# Altium integrated library Silicon Labs Isolation and Power.IntLib: 421 symbols (part 11 of 19)
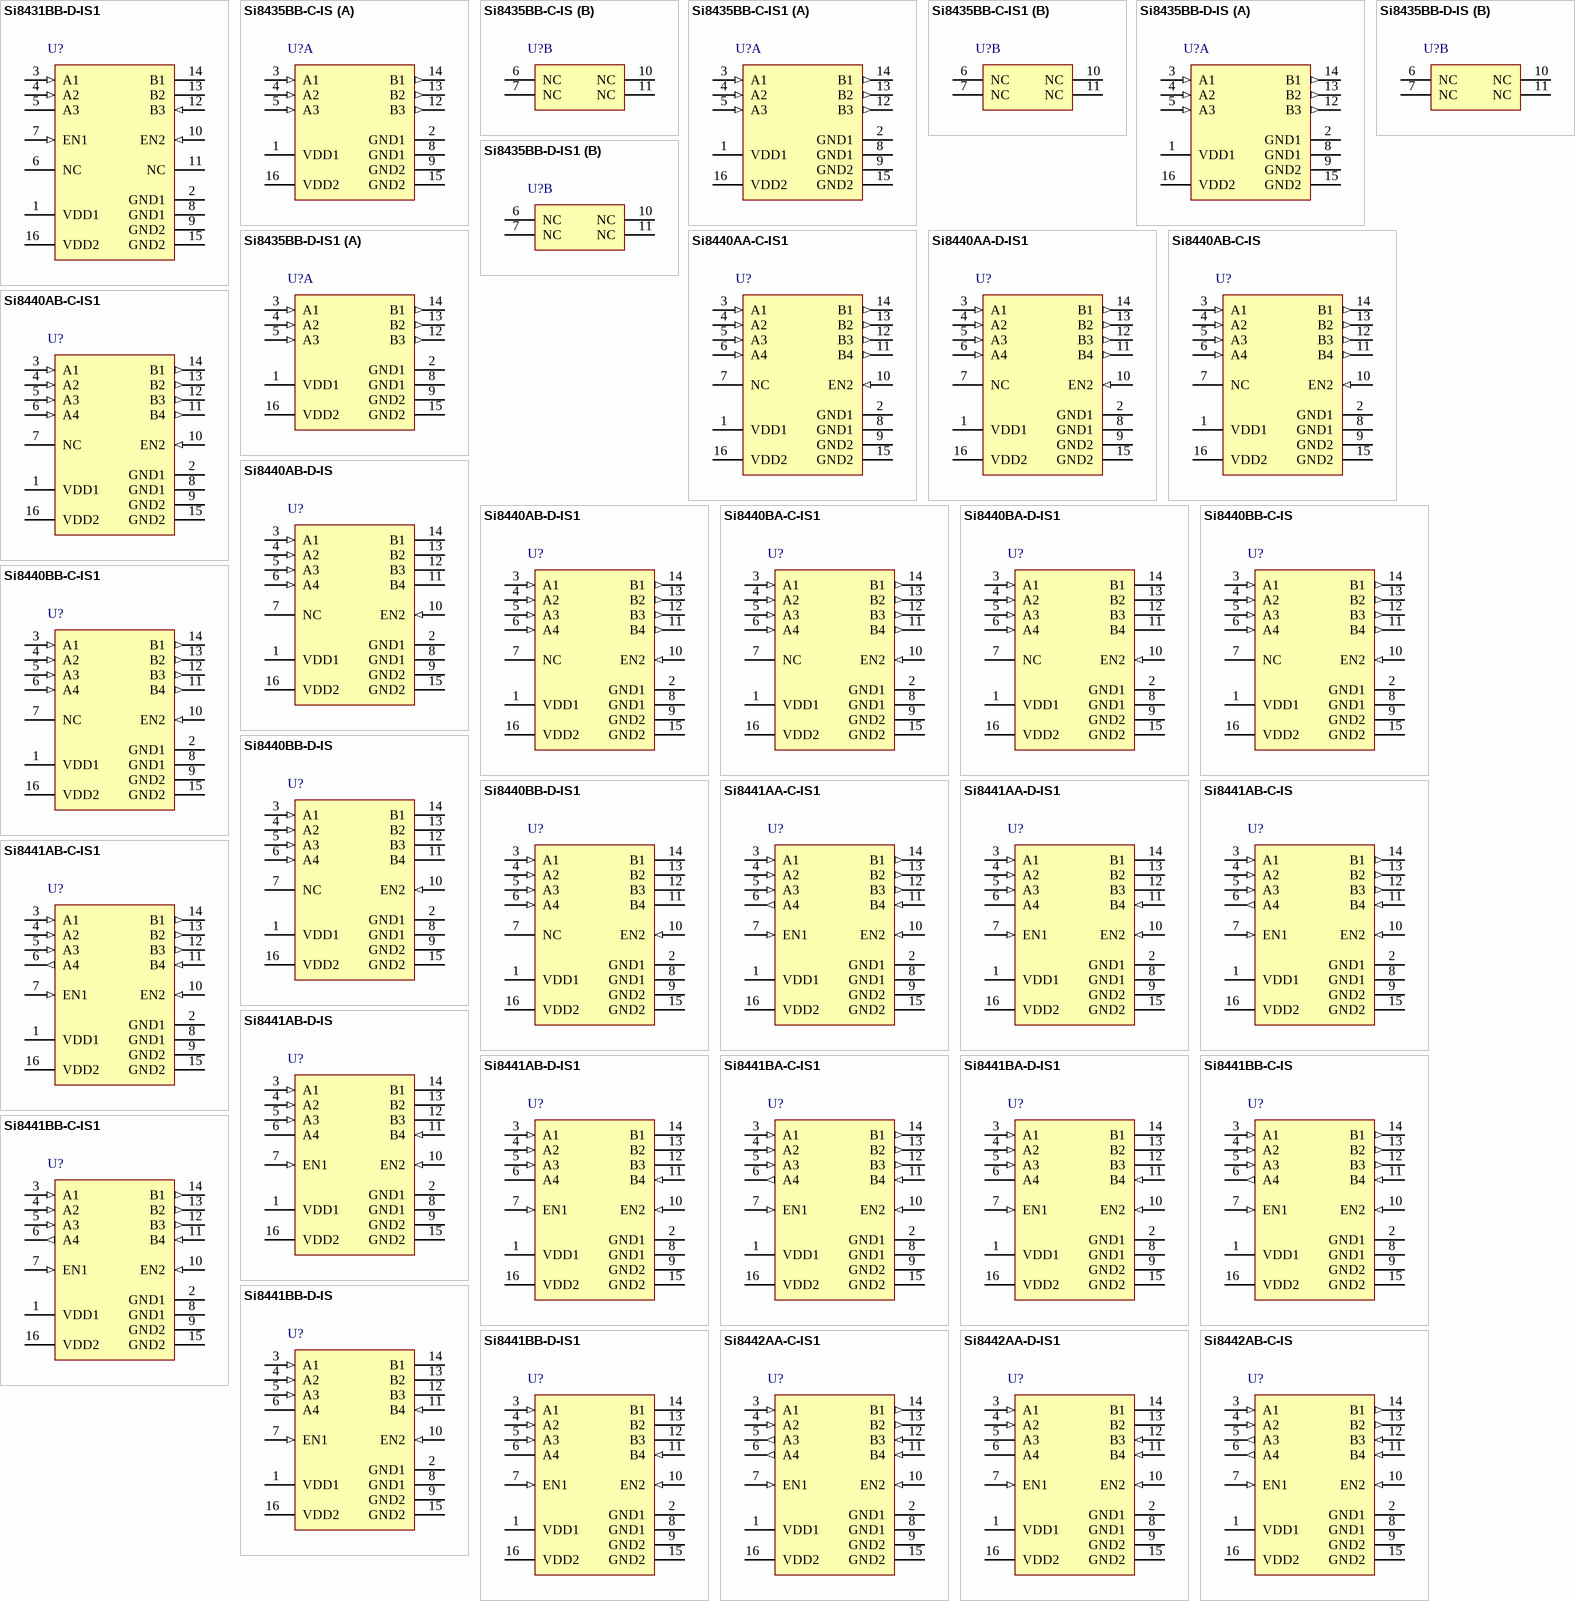
[diagram p24: symbols Si8431BB-D-IS1 to Si8442AB-C-IS]

## Si8441AB-D-IS1
designator U?
Low-Power Quad-Channel Digital Isolator, 1 Mbps, 2.5 kVRMS Isolation Rating, -40 to 125 degC, 16-pin SOIC; Manufacturer: Silicon Labs; PartNumber: Si8441AB-D-IS1; 10kV surge: FALSE; Channel Type: Unidirectional; Enable Control: TRUE; Isolation Rating (kV): 2.5; Maximum Data Rate (Mbps): 1; Maximum Propagation Delay (ns): 35; Sub-Family: Isolators; DatasheetVersion: Rev. 1.5; PackageReference: SOIC-16-NB; PackageDescription: 16-Pin Small-Outline Integrated Circuit, Body 9.9 x 3.9 mm, Pitch 1.27 mm; Supplier 1: Digi-Key; Supplier Part Number 1: SI8441AB-D-IS1-ND; Supplier 2: Mouser; Supplier Part Number 2: 634-SI8441AB-D-IS1; AEC-Q100: FALSE; Mounting Technology: Surface Mount; Code_JEDEC: MS-012; Code_IPC: J-STD-020; ComponentLink1Description: Manufacturer URL; ComponentLink1URL: http://www.silabs.com/; ComponentLink2Description: Datasheet; ComponentLink2URL: http://www.silabs.com/Support%20Documents/TechnicalDocs/Si844x.pdf; ComponentLink3Description: Package Specification; ComponentLink3URL: http://www.silabs.com/Support%20Documents/TechnicalDocs/si2401.pdf
footprint SLAB-SOIC-16-NB_N (SOIC, 16-Leads, Body 9.9x3.9mm, Pitch 1.27mm, IPC Medium Density)
footprint SLAB-SOIC-16-NB_L (SOIC, 16-Leads, Body 9.9x3.9mm, Pitch 1.27mm, IPC High Density)
footprint SLAB-SOIC-16-NB_M (SOIC, 16-Leads, Body 9.9x3.9mm, Pitch 1.27mm, IPC Low Density)
pins: 1 VDD1 (power) "Side 1 power supply.", 2 GND1 (power) "Side 1 ground.", 3 A1 (in) "Side 1 digital input.", 4 A2 (in) "Side 1 digital input.", 5 A3 (in) "Side 1 digital input.", 6 A4 (hiz) "Side 1 digital output.", 7 EN1 (in) "Side 1 active high enable.", 8 GND1 (power) "Side 1 ground.", 9 GND2 (power) "Side 2 ground.", 10 EN2 (in) "Side 2 active high enable.", 11 B4 (in) "Side 2 digital input.", 12 B3 (hiz) "Side 2 digital output.", 13 B2 (hiz) "Side 2 digital output.", 14 B1 (hiz) "Side 2 digital output.", 15 GND2 (power) "Side 2 ground.", 16 VDD2 (power) "Side 2 power supply."

## Si8441BA-C-IS1
designator U?
Low-Power Quad-Channel Digital Isolator, 150 Mbps, 1 kVRMS Isolation Rating, -40 to 125 degC, 16-pin SOIC; Manufacturer: Silicon Labs; PartNumber: Si8441BA-C-IS1; 10kV surge: FALSE; Channel Type: Unidirectional; Enable Control: TRUE; Isolation Rating (kV): 1; Maximum Data Rate (Mbps): 150; Maximum Propagation Delay (ns): 9.5; Sub-Family: Isolators; DatasheetVersion: Rev. 1.5; PackageReference: SOIC-16-NB; PackageDescription: 16-Pin Small-Outline Integrated Circuit, Body 9.9 x 3.9 mm, Pitch 1.27 mm; Supplier 1: Digi-Key; Supplier Part Number 1: SI8441BA-C-IS1-ND; AEC-Q100: FALSE; Mounting Technology: Surface Mount; Code_JEDEC: MS-012; Code_IPC: J-STD-020; ComponentLink1Description: Manufacturer URL; ComponentLink1URL: http://www.silabs.com/; ComponentLink2Description: Datasheet; ComponentLink2URL: http://www.silabs.com/Support%20Documents/TechnicalDocs/Si844x.pdf; ComponentLink3Description: Package Specification; ComponentLink3URL: http://www.silabs.com/Support%20Documents/TechnicalDocs/si2401.pdf
footprint SLAB-SOIC-16-NB_N (SOIC, 16-Leads, Body 9.9x3.9mm, Pitch 1.27mm, IPC Medium Density)
footprint SLAB-SOIC-16-NB_L (SOIC, 16-Leads, Body 9.9x3.9mm, Pitch 1.27mm, IPC High Density)
footprint SLAB-SOIC-16-NB_M (SOIC, 16-Leads, Body 9.9x3.9mm, Pitch 1.27mm, IPC Low Density)
pins: 1 VDD1 (power) "Side 1 power supply.", 2 GND1 (power) "Side 1 ground.", 3 A1 (in) "Side 1 digital input.", 4 A2 (in) "Side 1 digital input.", 5 A3 (in) "Side 1 digital input", 6 A4 (out) "Side 1 digital output.", 7 EN1 (in) "Side 1 active high enable", 8 GND1 (power) "Side 1 ground.", 9 GND2 (power) "Side 2 ground.", 10 EN2 (in) "Side 2 active high enable.", 11 B4 (in) "Side 2 digital input.", 12 B3 (out) "Side 2 digital output.", 13 B2 (out) "Side 2 digital output.", 14 B1 (out) "Side 2 digital output.", 15 GND2 (power) "Side 2 ground.", 16 VDD2 (power) "Side 2 power supply."

## Si8441BA-D-IS1
designator U?
Low-Power Quad-Channel Digital Isolator, 150 Mbps, 1 kVRMS Isolation Rating, -40 to 125 degC, 16-pin SOIC; Manufacturer: Silicon Labs; PartNumber: Si8441BA-D-IS1; 10kV surge: FALSE; Channel Type: Unidirectional; Enable Control: TRUE; Isolation Rating (kV): 1; Maximum Data Rate (Mbps): 150; Maximum Propagation Delay (ns): 9.5; Sub-Family: Isolators; DatasheetVersion: Rev. 1.5; PackageReference: SOIC-16-NB; PackageDescription: 16-Pin Small-Outline Integrated Circuit, Body 9.9 x 3.9 mm, Pitch 1.27 mm; Supplier 1: Digi-Key; Supplier Part Number 1: SI8441BA-D-IS1-ND; Supplier 2: Mouser; Supplier Part Number 2: 634-SI8441BA-D-IS1; AEC-Q100: FALSE; Mounting Technology: Surface Mount; Code_JEDEC: MS-012; Code_IPC: J-STD-020; ComponentLink1Description: Manufacturer URL; ComponentLink1URL: http://www.silabs.com/; ComponentLink2Description: Datasheet; ComponentLink2URL: http://www.silabs.com/Support%20Documents/TechnicalDocs/Si844x.pdf; ComponentLink3Description: Package Specification; ComponentLink3URL: http://www.silabs.com/Support%20Documents/TechnicalDocs/si2401.pdf
footprint SLAB-SOIC-16-NB_N (SOIC, 16-Leads, Body 9.9x3.9mm, Pitch 1.27mm, IPC Medium Density)
footprint SLAB-SOIC-16-NB_L (SOIC, 16-Leads, Body 9.9x3.9mm, Pitch 1.27mm, IPC High Density)
footprint SLAB-SOIC-16-NB_M (SOIC, 16-Leads, Body 9.9x3.9mm, Pitch 1.27mm, IPC Low Density)
pins: 1 VDD1 (power) "Side 1 power supply.", 2 GND1 (power) "Side 1 ground.", 3 A1 (in) "Side 1 digital input.", 4 A2 (in) "Side 1 digital input.", 5 A3 (in) "Side 1 digital input.", 6 A4 (hiz) "Side 1 digital output.", 7 EN1 (in) "Side 1 active high enable.", 8 GND1 (power) "Side 1 ground.", 9 GND2 (power) "Side 2 ground.", 10 EN2 (in) "Side 2 active high enable.", 11 B4 (in) "Side 2 digital input.", 12 B3 (hiz) "Side 2 digital output.", 13 B2 (hiz) "Side 2 digital output.", 14 B1 (hiz) "Side 2 digital output.", 15 GND2 (power) "Side 2 ground.", 16 VDD2 (power) "Side 2 power supply."

## Si8441BB-C-IS
designator U?
Low-Power Quad-Channel Digital Isolator, 150 Mbps, 2.5 kVRMS Isolation Rating, -40 to 125 degC, 16-pin SOIC; Manufacturer: Silicon Labs; PartNumber: Si8441BB-C-IS; 10kV surge: FALSE; Channel Type: Unidirectional; Enable Control: TRUE; Isolation Rating (kV): 2.5; Maximum Data Rate (Mbps): 150; Maximum Propagation Delay (ns): 9.5; Sub-Family: Isolators; DatasheetVersion: Rev. 1.5; PackageReference: SOIC-16-WB; PackageDescription: 16-Pin Wide Body Plastic Small Outline, Body 10.3 x 7.5 mm, Pitch 1.27 mm; Supplier 1: Mouser; Supplier Part Number 1: 634-SI8441BB-C-IS; AEC-Q100: FALSE; Mounting Technology: Surface Mount; Code_JEDEC: MS-013; ComponentLink1Description: Manufacturer URL; ComponentLink1URL: http://www.silabs.com/; ComponentLink2Description: Datasheet; ComponentLink2URL: http://www.silabs.com/Support%20Documents/TechnicalDocs/Si844x.pdf; ComponentLink3Description: Package Specification; ComponentLink3URL: https://www.silabs.com/Support%20Documents/TechnicalDocs/Si823x.pdf
footprint SLAB-SOIC-16-WB_N (SOIC, 16-Leads, Body 10.3x7.5mm, Pitch 1.27mm, IPC Medium Density)
footprint SLAB-SOIC-16-WB_L (SOIC, 16-Leads, Body 10.3x7.5mm, Pitch 1.27mm, IPC High Density)
footprint SLAB-SOIC-16-WB_M (SOIC, 16-Leads, Body 10.3x7.5mm, Pitch 1.27mm, IPC Low Density)
pins: 1 VDD1 (power) "Side 1 power supply.", 2 GND1 (power) "Side 1 ground.", 3 A1 (in) "Side 1 digital input.", 4 A2 (in) "Side 1 digital input.", 5 A3 (in) "Side 1 digital input", 6 A4 (out) "Side 1 digital output.", 7 EN1 (in) "Side 1 active high enable", 8 GND1 (power) "Side 1 ground.", 9 GND2 (power) "Side 2 ground.", 10 EN2 (in) "Side 2 active high enable.", 11 B4 (in) "Side 2 digital input.", 12 B3 (out) "Side 2 digital output.", 13 B2 (out) "Side 2 digital output.", 14 B1 (out) "Side 2 digital output.", 15 GND2 (power) "Side 2 ground.", 16 VDD2 (power) "Side 2 power supply."

## Si8441BB-C-IS1
designator U?
Low-Power Quad-Channel Digital Isolator, 150 Mbps, 2.5 kVRMS Isolation Rating, -40 to 125 degC, 16-pin SOIC; Manufacturer: Silicon Labs; PartNumber: Si8441BB-C-IS1; 10kV surge: FALSE; Channel Type: Unidirectional; Enable Control: TRUE; Isolation Rating (kV): 2.5; Maximum Data Rate (Mbps): 150; Maximum Propagation Delay (ns): 9.5; Sub-Family: Isolators; DatasheetVersion: Rev. 1.5; PackageReference: SOIC-16-NB; PackageDescription: 16-Pin Small-Outline Integrated Circuit, Body 9.9 x 3.9 mm, Pitch 1.27 mm; Supplier 1: Digi-Key; Supplier Part Number 1: SI8441BB-C-IS1-ND; AEC-Q100: FALSE; Mounting Technology: Surface Mount; Code_JEDEC: MS-012; Code_IPC: J-STD-020; ComponentLink1Description: Manufacturer URL; ComponentLink1URL: http://www.silabs.com/; ComponentLink2Description: Datasheet; ComponentLink2URL: http://www.silabs.com/Support%20Documents/TechnicalDocs/Si844x.pdf; ComponentLink3Description: Package Specification; ComponentLink3URL: http://www.silabs.com/Support%20Documents/TechnicalDocs/si2401.pdf
footprint SLAB-SOIC-16-NB_N (SOIC, 16-Leads, Body 9.9x3.9mm, Pitch 1.27mm, IPC Medium Density)
footprint SLAB-SOIC-16-NB_L (SOIC, 16-Leads, Body 9.9x3.9mm, Pitch 1.27mm, IPC High Density)
footprint SLAB-SOIC-16-NB_M (SOIC, 16-Leads, Body 9.9x3.9mm, Pitch 1.27mm, IPC Low Density)
pins: 1 VDD1 (power) "Side 1 power supply.", 2 GND1 (power) "Side 1 ground.", 3 A1 (in) "Side 1 digital input.", 4 A2 (in) "Side 1 digital input.", 5 A3 (in) "Side 1 digital input", 6 A4 (out) "Side 1 digital output.", 7 EN1 (in) "Side 1 active high enable", 8 GND1 (power) "Side 1 ground.", 9 GND2 (power) "Side 2 ground.", 10 EN2 (in) "Side 2 active high enable.", 11 B4 (in) "Side 2 digital input.", 12 B3 (out) "Side 2 digital output.", 13 B2 (out) "Side 2 digital output.", 14 B1 (out) "Side 2 digital output.", 15 GND2 (power) "Side 2 ground.", 16 VDD2 (power) "Side 2 power supply."

## Si8441BB-D-IS
designator U?
Low-Power Quad-Channel Digital Isolator, 150 Mbps, 2.5 kVRMS Isolation Rating, -40 to 125 degC, 16-pin SOIC; Manufacturer: Silicon Labs; PartNumber: Si8441BB-D-IS; 10kV surge: FALSE; Channel Type: Unidirectional; Enable Control: TRUE; Isolation Rating (kV): 2.5; Maximum Data Rate (Mbps): 150; Maximum Propagation Delay (ns): 9.5; Sub-Family: Isolators; DatasheetVersion: Rev. 1.5; PackageReference: SOIC-16-WB; PackageDescription: 16-Pin Wide Body Plastic Small Outline, Body 10.3 x 7.5 mm, Pitch 1.27 mm; Supplier 1: Digi-Key; Supplier Part Number 1: 336-1762-5-ND; Supplier 2: Mouser; Supplier Part Number 2: 634-SI8441BB-D-IS; AEC-Q100: FALSE; Mounting Technology: Surface Mount; Code_JEDEC: MS-013; ComponentLink1Description: Manufacturer URL; ComponentLink1URL: http://www.silabs.com/; ComponentLink2Description: Datasheet; ComponentLink2URL: http://www.silabs.com/Support%20Documents/TechnicalDocs/Si844x.pdf; ComponentLink3Description: Package Specification; ComponentLink3URL: https://www.silabs.com/Support%20Documents/TechnicalDocs/Si823x.pdf
footprint SLAB-SOIC-16-WB_N (SOIC, 16-Leads, Body 10.3x7.5mm, Pitch 1.27mm, IPC Medium Density)
footprint SLAB-SOIC-16-WB_L (SOIC, 16-Leads, Body 10.3x7.5mm, Pitch 1.27mm, IPC High Density)
footprint SLAB-SOIC-16-WB_M (SOIC, 16-Leads, Body 10.3x7.5mm, Pitch 1.27mm, IPC Low Density)
pins: 1 VDD1 (power) "Side 1 power supply.", 2 GND1 (power) "Side 1 ground.", 3 A1 (in) "Side 1 digital input.", 4 A2 (in) "Side 1 digital input.", 5 A3 (in) "Side 1 digital input.", 6 A4 (hiz) "Side 1 digital output.", 7 EN1 (in) "Side 1 active high enable.", 8 GND1 (power) "Side 1 ground.", 9 GND2 (power) "Side 2 ground.", 10 EN2 (in) "Side 2 active high enable.", 11 B4 (in) "Side 2 digital input.", 12 B3 (hiz) "Side 2 digital output.", 13 B2 (hiz) "Side 2 digital output.", 14 B1 (hiz) "Side 2 digital output.", 15 GND2 (power) "Side 2 ground.", 16 VDD2 (power) "Side 2 power supply."

## Si8441BB-D-IS1
designator U?
Low-Power Quad-Channel Digital Isolator, 150 Mbps, 2.5 kVRMS Isolation Rating, -40 to 125 degC, 16-pin SOIC; Manufacturer: Silicon Labs; PartNumber: Si8441BB-D-IS1; 10kV surge: FALSE; Channel Type: Unidirectional; Enable Control: TRUE; Isolation Rating (kV): 2.5; Maximum Data Rate (Mbps): 150; Maximum Propagation Delay (ns): 9.5; Sub-Family: Isolators; DatasheetVersion: Rev. 1.5; PackageReference: SOIC-16-NB; PackageDescription: 16-Pin Small-Outline Integrated Circuit, Body 9.9 x 3.9 mm, Pitch 1.27 mm; Supplier 1: Digi-Key; Supplier Part Number 1: SI8441BB-D-IS1-ND; Supplier 2: Mouser; Supplier Part Number 2: 634-SI8441BB-D-IS1; AEC-Q100: FALSE; Mounting Technology: Surface Mount; Code_JEDEC: MS-012; Code_IPC: J-STD-020; ComponentLink1Description: Manufacturer URL; ComponentLink1URL: http://www.silabs.com/; ComponentLink2Description: Datasheet; ComponentLink2URL: http://www.silabs.com/Support%20Documents/TechnicalDocs/Si844x.pdf; ComponentLink3Description: Package Specification; ComponentLink3URL: http://www.silabs.com/Support%20Documents/TechnicalDocs/si2401.pdf
footprint SLAB-SOIC-16-NB_N (SOIC, 16-Leads, Body 9.9x3.9mm, Pitch 1.27mm, IPC Medium Density)
footprint SLAB-SOIC-16-NB_L (SOIC, 16-Leads, Body 9.9x3.9mm, Pitch 1.27mm, IPC High Density)
footprint SLAB-SOIC-16-NB_M (SOIC, 16-Leads, Body 9.9x3.9mm, Pitch 1.27mm, IPC Low Density)
pins: 1 VDD1 (power) "Side 1 power supply.", 2 GND1 (power) "Side 1 ground.", 3 A1 (in) "Side 1 digital input.", 4 A2 (in) "Side 1 digital input.", 5 A3 (in) "Side 1 digital input.", 6 A4 (hiz) "Side 1 digital output.", 7 EN1 (in) "Side 1 active high enable.", 8 GND1 (power) "Side 1 ground.", 9 GND2 (power) "Side 2 ground.", 10 EN2 (in) "Side 2 active high enable.", 11 B4 (in) "Side 2 digital input.", 12 B3 (hiz) "Side 2 digital output.", 13 B2 (hiz) "Side 2 digital output.", 14 B1 (hiz) "Side 2 digital output.", 15 GND2 (power) "Side 2 ground.", 16 VDD2 (power) "Side 2 power supply."

## Si8442AA-C-IS1
designator U?
Low-Power Quad-Channel Digital Isolator, 1 Mbps, 1 kVRMS Isolation Rating, -40 to 125 degC, 16-pin SOIC; Manufacturer: Silicon Labs; PartNumber: Si8442AA-C-IS1; 10kV surge: FALSE; Channel Type: Unidirectional; Enable Control: TRUE; Isolation Rating (kV): 1; Maximum Propagation Delay (ns): 35; Sub-Family: Isolators; DatasheetVersion: Rev. 1.5; PackageReference: SOIC-16-NB; PackageDescription: 16-Pin Small-Outline Integrated Circuit, Body 9.9 x 3.9 mm, Pitch 1.27 mm; Supplier 1: Digi-Key; Supplier Part Number 1: SI8442AA-C-IS1-ND; AEC-Q100: FALSE; Maximum Data Rate (Mbps): 1; Mounting Technology: Surface Mount; Code_JEDEC: MS-012; Code_IPC: J-STD-020; ComponentLink1Description: Manufacturer URL; ComponentLink1URL: http://www.silabs.com/; ComponentLink2Description: Datasheet; ComponentLink2URL: http://www.silabs.com/Support%20Documents/TechnicalDocs/Si844x.pdf; ComponentLink3Description: Package Specification; ComponentLink3URL: http://www.silabs.com/Support%20Documents/TechnicalDocs/si2401.pdf
footprint SLAB-SOIC-16-NB_N (SOIC, 16-Leads, Body 9.9x3.9mm, Pitch 1.27mm, IPC Medium Density)
footprint SLAB-SOIC-16-NB_L (SOIC, 16-Leads, Body 9.9x3.9mm, Pitch 1.27mm, IPC High Density)
footprint SLAB-SOIC-16-NB_M (SOIC, 16-Leads, Body 9.9x3.9mm, Pitch 1.27mm, IPC Low Density)
pins: 1 VDD1 (power) "Side 1 power supply.", 2 GND1 (power) "Side 1 ground.", 3 A1 (in) "Side 1 digital input.", 4 A2 (in) "Side 1 digital input.", 5 A3 (out) "Side 1 digital output.", 6 A4 (out) "Side 1 digital output.", 7 EN1 (in) "Side 1 active high enable", 8 GND1 (power) "Side 1 ground.", 9 GND2 (power) "Side 2 ground.", 10 EN2 (in) "Side 2 active high enable.", 11 B4 (in) "Side 2 digital input", 12 B3 (in) "Side 2 digital input", 13 B2 (out) "Side 2 digital output.", 14 B1 (out) "Side 2 digital output.", 15 GND2 (power) "Side 2 ground.", 16 VDD2 (power) "Side 2 power supply."

## Si8442AA-D-IS1
designator U?
Low-Power Quad-Channel Digital Isolator, 1 Mbps, 1 kVRMS Isolation Rating, -40 to 125 degC, 16-pin SOIC; Manufacturer: Silicon Labs; PartNumber: Si8442AA-D-IS1; 10kV surge: FALSE; Channel Type: Unidirectional; Enable Control: TRUE; Isolation Rating (kV): 1; Maximum Propagation Delay (ns): 35; Sub-Family: Isolators; DatasheetVersion: Rev. 1.5; PackageReference: SOIC-16-NB; PackageDescription: 16-Pin Small-Outline Integrated Circuit, Body 9.9 x 3.9 mm, Pitch 1.27 mm; Supplier 1: Digi-Key; Supplier Part Number 1: SI8442AA-D-IS1-ND; Supplier 2: Mouser; Supplier Part Number 2: 634-SI8442AA-D-IS1; AEC-Q100: FALSE; Maximum Data Rate (Mbps): 1; Mounting Technology: Surface Mount; Code_JEDEC: MS-012; Code_IPC: J-STD-020; ComponentLink1Description: Manufacturer URL; ComponentLink1URL: http://www.silabs.com/; ComponentLink2Description: Datasheet; ComponentLink2URL: http://www.silabs.com/Support%20Documents/TechnicalDocs/Si844x.pdf; ComponentLink3Description: Package Specification; ComponentLink3URL: http://www.silabs.com/Support%20Documents/TechnicalDocs/si2401.pdf
footprint SLAB-SOIC-16-NB_N (SOIC, 16-Leads, Body 9.9x3.9mm, Pitch 1.27mm, IPC Medium Density)
footprint SLAB-SOIC-16-NB_L (SOIC, 16-Leads, Body 9.9x3.9mm, Pitch 1.27mm, IPC High Density)
footprint SLAB-SOIC-16-NB_M (SOIC, 16-Leads, Body 9.9x3.9mm, Pitch 1.27mm, IPC Low Density)
pins: 1 VDD1 (power) "Side 1 power supply.", 2 GND1 (power) "Side 1 ground.", 3 A1 (in) "Side 1 digital input.", 4 A2 (in) "Side 1 digital input.", 5 A3 (hiz) "Side 1 digital output.", 6 A4 (hiz) "Side 1 digital output.", 7 EN1 (in) "Side 1 active high enable.", 8 GND1 (power) "Side 1 ground.", 9 GND2 (power) "Side 2 ground.", 10 EN2 (in) "Side 2 active high enable.", 11 B4 (in) "Side 2 digital input.", 12 B3 (in) "Side 2 digital input.", 13 B2 (hiz) "Side 2 digital output.", 14 B1 (hiz) "Side 2 digital output.", 15 GND2 (power) "Side 2 ground.", 16 VDD2 (power) "Side 2 power supply."

## Si8442AB-C-IS
designator U?
Low-Power Quad-Channel Digital Isolator, 1 Mbps, 2.5 kVRMS Isolation Rating, -40 to 125 degC, 16-pin SOIC; Manufacturer: Silicon Labs; PartNumber: Si8442AB-C-IS; Note: 0; 10kV surge: FALSE; Channel Type: Unidirectional; Enable Control: TRUE; Isolation Rating (kV): 2.5; Maximum Data Rate (Mbps): 1; Maximum Propagation Delay (ns): 35; Sub-Family: Isolators; DatasheetVersion: Rev. 1.5; PackageReference: SOIC-16-WB; PackageDescription: 16-Pin Wide Body Plastic Small Outline, Body 10.3 x 7.5 mm, Pitch 1.27 mm; AEC-Q100: FALSE; Mounting Technology: Surface Mount; Code_JEDEC: MS-013; ComponentLink1Description: Manufacturer URL; ComponentLink1URL: http://www.silabs.com/; ComponentLink2Description: Datasheet; ComponentLink2URL: http://www.silabs.com/Support%20Documents/TechnicalDocs/Si844x.pdf; ComponentLink3Description: Package Specification; ComponentLink3URL: https://www.silabs.com/Support%20Documents/TechnicalDocs/Si823x.pdf
footprint SLAB-SOIC-16-WB_N (SOIC, 16-Leads, Body 10.3x7.5mm, Pitch 1.27mm, IPC Medium Density)
footprint SLAB-SOIC-16-WB_L (SOIC, 16-Leads, Body 10.3x7.5mm, Pitch 1.27mm, IPC High Density)
footprint SLAB-SOIC-16-WB_M (SOIC, 16-Leads, Body 10.3x7.5mm, Pitch 1.27mm, IPC Low Density)
pins: 1 VDD1 (power) "Side 1 power supply.", 2 GND1 (power) "Side 1 ground.", 3 A1 (in) "Side 1 digital input.", 4 A2 (in) "Side 1 digital input.", 5 A3 (out) "Side 1 digital output.", 6 A4 (out) "Side 1 digital output.", 7 EN1 (in) "Side 1 active high enable", 8 GND1 (power) "Side 1 ground.", 9 GND2 (power) "Side 2 ground.", 10 EN2 (in) "Side 2 active high enable.", 11 B4 (in) "Side 2 digital input", 12 B3 (in) "Side 2 digital input", 13 B2 (out) "Side 2 digital output.", 14 B1 (out) "Side 2 digital output.", 15 GND2 (power) "Side 2 ground.", 16 VDD2 (power) "Side 2 power supply."

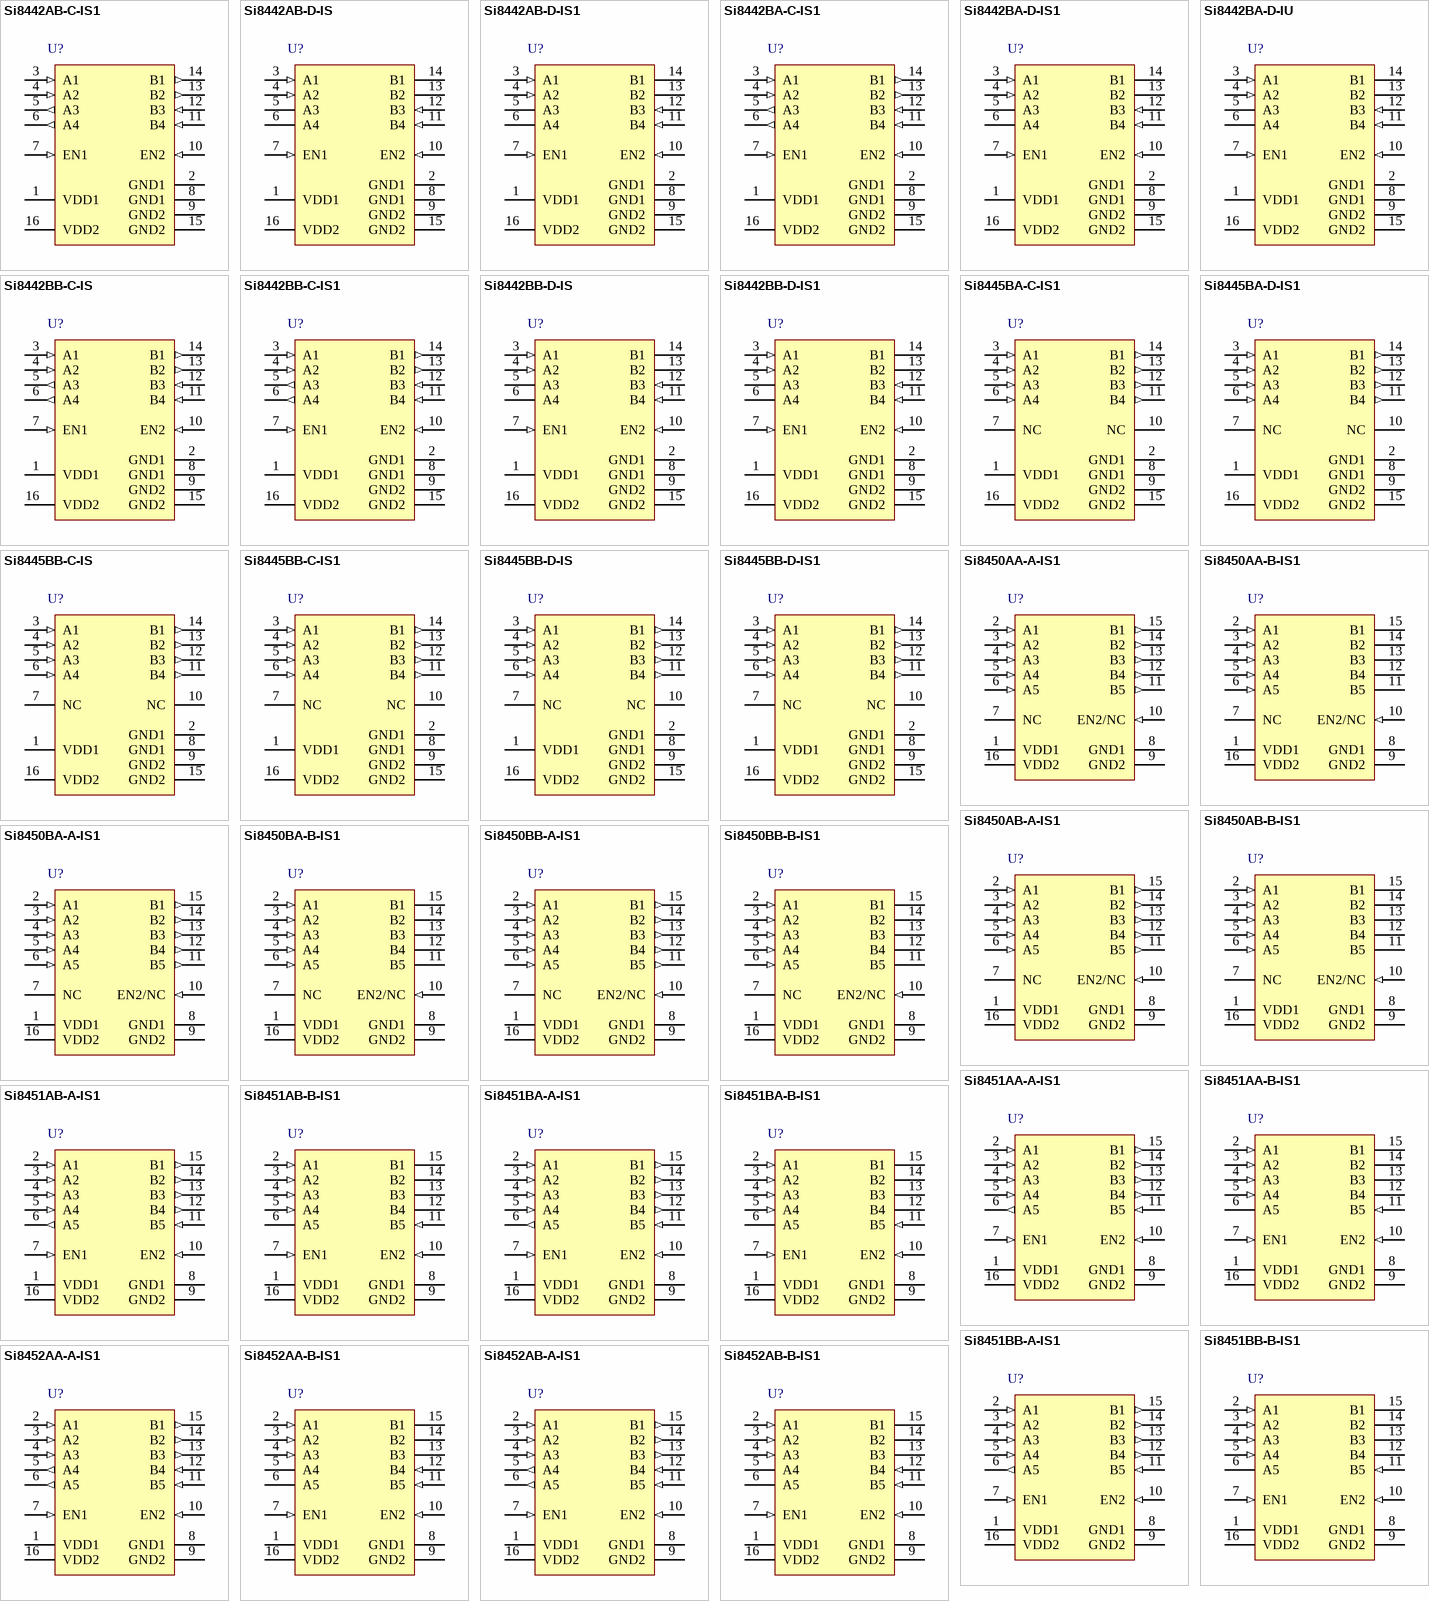
[diagram p8: symbols Si8442AB-C-IS1 to Si8452AB-B-IS1]

## Si8442AB-C-IS1
designator U?
Low-Power Quad-Channel Digital Isolator, 1 Mbps, 2.5 kVRMS Isolation Rating, -40 to 125 degC, 16-pin SOIC; Manufacturer: Silicon Labs; PartNumber: Si8442AB-C-IS1; 10kV surge: FALSE; Channel Type: Unidirectional; Enable Control: TRUE; Isolation Rating (kV): 2.5; Maximum Data Rate (Mbps): 1; Maximum Propagation Delay (ns): 35; Sub-Family: Isolators; DatasheetVersion: Rev. 1.5; PackageReference: SOIC-16-NB; PackageDescription: 16-Pin Small-Outline Integrated Circuit, Body 9.9 x 3.9 mm, Pitch 1.27 mm; Supplier 1: Digi-Key; Supplier Part Number 1: SI8442AB-C-IS1-ND; AEC-Q100: FALSE; Mounting Technology: Surface Mount; Code_JEDEC: MS-012; Code_IPC: J-STD-020; ComponentLink1Description: Manufacturer URL; ComponentLink1URL: http://www.silabs.com/; ComponentLink2Description: Datasheet; ComponentLink2URL: http://www.silabs.com/Support%20Documents/TechnicalDocs/Si844x.pdf; ComponentLink3Description: Package Specification; ComponentLink3URL: http://www.silabs.com/Support%20Documents/TechnicalDocs/si2401.pdf
footprint SLAB-SOIC-16-NB_N (SOIC, 16-Leads, Body 9.9x3.9mm, Pitch 1.27mm, IPC Medium Density)
footprint SLAB-SOIC-16-NB_L (SOIC, 16-Leads, Body 9.9x3.9mm, Pitch 1.27mm, IPC High Density)
footprint SLAB-SOIC-16-NB_M (SOIC, 16-Leads, Body 9.9x3.9mm, Pitch 1.27mm, IPC Low Density)
pins: 1 VDD1 (power) "Side 1 power supply.", 2 GND1 (power) "Side 1 ground.", 3 A1 (in) "Side 1 digital input.", 4 A2 (in) "Side 1 digital input.", 5 A3 (out) "Side 1 digital output.", 6 A4 (out) "Side 1 digital output.", 7 EN1 (in) "Side 1 active high enable", 8 GND1 (power) "Side 1 ground.", 9 GND2 (power) "Side 2 ground.", 10 EN2 (in) "Side 2 active high enable.", 11 B4 (in) "Side 2 digital input", 12 B3 (in) "Side 2 digital input", 13 B2 (out) "Side 2 digital output.", 14 B1 (out) "Side 2 digital output.", 15 GND2 (power) "Side 2 ground.", 16 VDD2 (power) "Side 2 power supply."

## Si8442AB-D-IS
designator U?
Low-Power Quad-Channel Digital Isolator, 1 Mbps, 2.5 kVRMS Isolation Rating, -40 to 125 degC, 16-pin SOIC; Manufacturer: Silicon Labs; PartNumber: Si8442AB-D-IS; 10kV surge: FALSE; Channel Type: Unidirectional; Enable Control: TRUE; Isolation Rating (kV): 2.5; Maximum Data Rate (Mbps): 1; Maximum Propagation Delay (ns): 35; Sub-Family: Isolators; DatasheetVersion: Rev. 1.5; PackageReference: SOIC-16-WB; PackageDescription: 16-Pin Wide Body Plastic Small Outline, Body 10.3 x 7.5 mm, Pitch 1.27 mm; Supplier 1: Digi-Key; Supplier Part Number 1: 336-1763-5-ND; Supplier 2: Mouser; Supplier Part Number 2: 634-SI8442AB-D-IS; AEC-Q100: FALSE; Mounting Technology: Surface Mount; Code_JEDEC: MS-013; ComponentLink1Description: Manufacturer URL; ComponentLink1URL: http://www.silabs.com/; ComponentLink2Description: Datasheet; ComponentLink2URL: http://www.silabs.com/Support%20Documents/TechnicalDocs/Si844x.pdf; ComponentLink3Description: Package Specification; ComponentLink3URL: https://www.silabs.com/Support%20Documents/TechnicalDocs/Si823x.pdf
footprint SLAB-SOIC-16-WB_N (SOIC, 16-Leads, Body 10.3x7.5mm, Pitch 1.27mm, IPC Medium Density)
footprint SLAB-SOIC-16-WB_L (SOIC, 16-Leads, Body 10.3x7.5mm, Pitch 1.27mm, IPC High Density)
footprint SLAB-SOIC-16-WB_M (SOIC, 16-Leads, Body 10.3x7.5mm, Pitch 1.27mm, IPC Low Density)
pins: 1 VDD1 (power) "Side 1 power supply.", 2 GND1 (power) "Side 1 ground.", 3 A1 (in) "Side 1 digital input.", 4 A2 (in) "Side 1 digital input.", 5 A3 (hiz) "Side 1 digital output.", 6 A4 (hiz) "Side 1 digital output.", 7 EN1 (in) "Side 1 active high enable.", 8 GND1 (power) "Side 1 ground.", 9 GND2 (power) "Side 2 ground.", 10 EN2 (in) "Side 2 active high enable.", 11 B4 (in) "Side 2 digital input.", 12 B3 (in) "Side 2 digital input.", 13 B2 (hiz) "Side 2 digital output.", 14 B1 (hiz) "Side 2 digital output.", 15 GND2 (power) "Side 2 ground.", 16 VDD2 (power) "Side 2 power supply."

## Si8442AB-D-IS1
designator U?
Low-Power Quad-Channel Digital Isolator, 1 Mbps, 2.5 kVRMS Isolation Rating, -40 to 125 degC, 16-pin SOIC; Manufacturer: Silicon Labs; PartNumber: Si8442AB-D-IS1; 10kV surge: FALSE; Channel Type: Unidirectional; Enable Control: TRUE; Isolation Rating (kV): 2.5; Maximum Data Rate (Mbps): 1; Maximum Propagation Delay (ns): 35; Sub-Family: Isolators; DatasheetVersion: Rev. 1.5; PackageReference: SOIC-16-NB; PackageDescription: 16-Pin Small-Outline Integrated Circuit, Body 9.9 x 3.9 mm, Pitch 1.27 mm; Supplier 1: Digi-Key; Supplier Part Number 1: SI8442AB-D-IS1-ND; Supplier 2: Mouser; Supplier Part Number 2: 634-SI8442AB-D-IS1; AEC-Q100: FALSE; Mounting Technology: Surface Mount; Code_JEDEC: MS-012; Code_IPC: J-STD-020; ComponentLink1Description: Manufacturer URL; ComponentLink1URL: http://www.silabs.com/; ComponentLink2Description: Datasheet; ComponentLink2URL: http://www.silabs.com/Support%20Documents/TechnicalDocs/Si844x.pdf; ComponentLink3Description: Package Specification; ComponentLink3URL: http://www.silabs.com/Support%20Documents/TechnicalDocs/si2401.pdf
footprint SLAB-SOIC-16-NB_N (SOIC, 16-Leads, Body 9.9x3.9mm, Pitch 1.27mm, IPC Medium Density)
footprint SLAB-SOIC-16-NB_L (SOIC, 16-Leads, Body 9.9x3.9mm, Pitch 1.27mm, IPC High Density)
footprint SLAB-SOIC-16-NB_M (SOIC, 16-Leads, Body 9.9x3.9mm, Pitch 1.27mm, IPC Low Density)
pins: 1 VDD1 (power) "Side 1 power supply.", 2 GND1 (power) "Side 1 ground.", 3 A1 (in) "Side 1 digital input.", 4 A2 (in) "Side 1 digital input.", 5 A3 (hiz) "Side 1 digital output.", 6 A4 (hiz) "Side 1 digital output.", 7 EN1 (in) "Side 1 active high enable.", 8 GND1 (power) "Side 1 ground.", 9 GND2 (power) "Side 2 ground.", 10 EN2 (in) "Side 2 active high enable.", 11 B4 (in) "Side 2 digital input.", 12 B3 (in) "Side 2 digital input.", 13 B2 (hiz) "Side 2 digital output.", 14 B1 (hiz) "Side 2 digital output.", 15 GND2 (power) "Side 2 ground.", 16 VDD2 (power) "Side 2 power supply."

## Si8442BA-C-IS1
designator U?
Low-Power Quad-Channel Digital Isolator, 150 Mbps, 1 kVRMS Isolation Rating, -40 to 125 degC, 16-pin SOIC; Manufacturer: Silicon Labs; PartNumber: Si8442BA-C-IS1; 10kV surge: FALSE; Channel Type: Unidirectional; Enable Control: TRUE; Isolation Rating (kV): 1; Maximum Data Rate (Mbps): 150; Maximum Propagation Delay (ns): 9.5; Sub-Family: Isolators; DatasheetVersion: Rev. 1.5; PackageReference: SOIC-16-NB; PackageDescription: 16-Pin Small-Outline Integrated Circuit, Body 9.9 x 3.9 mm, Pitch 1.27 mm; Supplier 1: Digi-Key; Supplier Part Number 1: SI8442BA-C-IS1-ND; Supplier 2: Mouser; Supplier Part Number 2: 634-SI8442BA-C-IS1; AEC-Q100: FALSE; Mounting Technology: Surface Mount; Code_JEDEC: MS-012; Code_IPC: J-STD-020; ComponentLink1Description: Manufacturer URL; ComponentLink1URL: http://www.silabs.com/; ComponentLink2Description: Datasheet; ComponentLink2URL: http://www.silabs.com/Support%20Documents/TechnicalDocs/Si844x.pdf; ComponentLink3Description: Package Specification; ComponentLink3URL: http://www.silabs.com/Support%20Documents/TechnicalDocs/si2401.pdf
footprint SLAB-SOIC-16-NB_N (SOIC, 16-Leads, Body 9.9x3.9mm, Pitch 1.27mm, IPC Medium Density)
footprint SLAB-SOIC-16-NB_L (SOIC, 16-Leads, Body 9.9x3.9mm, Pitch 1.27mm, IPC High Density)
footprint SLAB-SOIC-16-NB_M (SOIC, 16-Leads, Body 9.9x3.9mm, Pitch 1.27mm, IPC Low Density)
pins: 1 VDD1 (power) "Side 1 power supply.", 2 GND1 (power) "Side 1 ground.", 3 A1 (in) "Side 1 digital input.", 4 A2 (in) "Side 1 digital input.", 5 A3 (out) "Side 1 digital output.", 6 A4 (out) "Side 1 digital output.", 7 EN1 (in) "Side 1 active high enable", 8 GND1 (power) "Side 1 ground.", 9 GND2 (power) "Side 2 ground.", 10 EN2 (in) "Side 2 active high enable.", 11 B4 (in) "Side 2 digital input", 12 B3 (in) "Side 2 digital input", 13 B2 (out) "Side 2 digital output.", 14 B1 (out) "Side 2 digital output.", 15 GND2 (power) "Side 2 ground.", 16 VDD2 (power) "Side 2 power supply."

## Si8442BA-D-IS1
designator U?
Low-Power Quad-Channel Digital Isolator, 150 Mbps, 1 kVRMS Isolation Rating, -40 to 125 degC, 16-pin SOIC; Manufacturer: Silicon Labs; PartNumber: Si8442BA-D-IS1; 10kV surge: FALSE; Channel Type: Unidirectional; Enable Control: TRUE; Isolation Rating (kV): 1; Maximum Data Rate (Mbps): 150; Maximum Propagation Delay (ns): 9.5; Sub-Family: Isolators; DatasheetVersion: Rev. 1.5; PackageReference: SOIC-16-NB; PackageDescription: 16-Pin Small-Outline Integrated Circuit, Body 9.9 x 3.9 mm, Pitch 1.27 mm; Supplier 1: Digi-Key; Supplier Part Number 1: SI8442BA-D-IS1-ND; Supplier 2: Mouser; Supplier Part Number 2: 634-SI8442BA-D-IS1; AEC-Q100: FALSE; Mounting Technology: Surface Mount; Code_JEDEC: MS-012; Code_IPC: J-STD-020; ComponentLink1Description: Manufacturer URL; ComponentLink1URL: http://www.silabs.com/; ComponentLink2Description: Datasheet; ComponentLink2URL: http://www.silabs.com/Support%20Documents/TechnicalDocs/Si844x.pdf; ComponentLink3Description: Package Specification; ComponentLink3URL: http://www.silabs.com/Support%20Documents/TechnicalDocs/si2401.pdf
footprint SLAB-SOIC-16-NB_N (SOIC, 16-Leads, Body 9.9x3.9mm, Pitch 1.27mm, IPC Medium Density)
footprint SLAB-SOIC-16-NB_L (SOIC, 16-Leads, Body 9.9x3.9mm, Pitch 1.27mm, IPC High Density)
footprint SLAB-SOIC-16-NB_M (SOIC, 16-Leads, Body 9.9x3.9mm, Pitch 1.27mm, IPC Low Density)
pins: 1 VDD1 (power) "Side 1 power supply.", 2 GND1 (power) "Side 1 ground.", 3 A1 (in) "Side 1 digital input.", 4 A2 (in) "Side 1 digital input.", 5 A3 (hiz) "Side 1 digital output.", 6 A4 (hiz) "Side 1 digital output.", 7 EN1 (in) "Side 1 active high enable.", 8 GND1 (power) "Side 1 ground.", 9 GND2 (power) "Side 2 ground.", 10 EN2 (in) "Side 2 active high enable.", 11 B4 (in) "Side 2 digital input.", 12 B3 (in) "Side 2 digital input.", 13 B2 (hiz) "Side 2 digital output.", 14 B1 (hiz) "Side 2 digital output.", 15 GND2 (power) "Side 2 ground.", 16 VDD2 (power) "Side 2 power supply."

## Si8442BA-D-IU
designator U?
Four and Five-Channel Digital Isolator, 150 Mbps, 1 kVRMS Isolation Rating, -40 to 125 degC, 16-pin SOP; Manufacturer: Silicon Labs; PartNumber: Si8442BA-D-IU; 10kV surge: FALSE; Channel Type: Unidirectional; Enable Control: TRUE; Isolation Rating (kV): 1; Maximum Data Rate (Mbps): 150; Maximum Propagation Delay (ns): 9.5; Sub-Family: Isolators; DatasheetVersion: Rev. 1.1; PackageReference: QSOP-16; PackageDescription: 16-Pin Quarter-Size Small Outline Package, Body 4.89 x 3.9 mm, Pitch 0.635 mm; Supplier 1: Digi-Key; Supplier Part Number 1: SI8442BA-D-IU-ND; Supplier 2: Mouser; Supplier Part Number 2: 634-SI8442BA-D-IU; AEC-Q100: FALSE; Mounting Technology: Surface Mount; Code_JEDEC: MO-137; Code_IPC: J-STD-020D; ComponentLink1Description: Manufacturer URL; ComponentLink1URL: http://www.silabs.com/; ComponentLink2Description: Datasheet; ComponentLink2URL: http://www.silabs.com/Support%20Documents/TechnicalDocs/Si84x-5x-QSOP.pdf; ComponentLink3Description: Package Specification; ComponentLink3URL: http://www.silabs.com/Support%20Documents/TechnicalDocs/Si864x.pdf
footprint SLAB-QSOP-16_N (SOP, 16-Leads, Body 4.9x3.9mm, Pitch 0.635mm, IPC Medium Density)
footprint SLAB-QSOP-16_L (SOP, 16-Leads, Body 4.9x3.9mm, Pitch 0.635mm, IPC High Density)
footprint SLAB-QSOP-16_M (SOP, 16-Leads, Body 4.9x3.9mm, Pitch 0.635mm, IPC Low Density)
pins: 1 VDD1 (power) "Side 1 power supply.", 2 GND1 (power) "Side 1 ground.", 3 A1 (in) "Side 1 digital input.", 4 A2 (in) "Side 1 digital input.", 5 A3 (hiz) "Side 1 digital output.", 6 A4 (hiz) "Side 1 digital output.", 7 EN1 (in) "Side 1 active high enable.", 8 GND1 (power) "Side 1 ground.", 9 GND2 (power) "Side 2 ground.", 10 EN2 (in) "Side 2 active high enable.", 11 B4 (in) "Side 2 digital input.", 12 B3 (in) "Side 2 digital input.", 13 B2 (hiz) "Side 2 digital output.", 14 B1 (hiz) "Side 2 digital output.", 15 GND2 (power) "Side 2 ground.", 16 VDD2 (power) "Side 2 power supply."

## Si8442BB-C-IS
designator U?
Low-Power Quad-Channel Digital Isolator, 150 Mbps, 2.5 kVRMS Isolation Rating, -40 to 125 degC, 16-pin SOIC; Manufacturer: Silicon Labs; PartNumber: Si8442BB-C-IS; 10kV surge: FALSE; Channel Type: Unidirectional; Enable Control: TRUE; Isolation Rating (kV): 2.5; Maximum Data Rate (Mbps): 150; Maximum Propagation Delay (ns): 9.5; Sub-Family: Isolators; DatasheetVersion: Rev. 1.5; PackageReference: SOIC-16-WB; PackageDescription: 16-Pin Wide Body Plastic Small Outline, Body 10.3 x 7.5 mm, Pitch 1.27 mm; Supplier 1: Mouser; Supplier Part Number 1: 634-SI8442BB-C-IS; AEC-Q100: FALSE; Mounting Technology: Surface Mount; Code_JEDEC: MS-013; ComponentLink1Description: Manufacturer URL; ComponentLink1URL: http://www.silabs.com/; ComponentLink2Description: Datasheet; ComponentLink2URL: http://www.silabs.com/Support%20Documents/TechnicalDocs/Si844x.pdf; ComponentLink3Description: Package Specification; ComponentLink3URL: https://www.silabs.com/Support%20Documents/TechnicalDocs/Si823x.pdf
footprint SLAB-SOIC-16-WB_N (SOIC, 16-Leads, Body 10.3x7.5mm, Pitch 1.27mm, IPC Medium Density)
footprint SLAB-SOIC-16-WB_L (SOIC, 16-Leads, Body 10.3x7.5mm, Pitch 1.27mm, IPC High Density)
footprint SLAB-SOIC-16-WB_M (SOIC, 16-Leads, Body 10.3x7.5mm, Pitch 1.27mm, IPC Low Density)
pins: 1 VDD1 (power) "Side 1 power supply.", 2 GND1 (power) "Side 1 ground.", 3 A1 (in) "Side 1 digital input.", 4 A2 (in) "Side 1 digital input.", 5 A3 (out) "Side 1 digital output.", 6 A4 (out) "Side 1 digital output.", 7 EN1 (in) "Side 1 active high enable", 8 GND1 (power) "Side 1 ground.", 9 GND2 (power) "Side 2 ground.", 10 EN2 (in) "Side 2 active high enable.", 11 B4 (in) "Side 2 digital input", 12 B3 (in) "Side 2 digital input", 13 B2 (out) "Side 2 digital output.", 14 B1 (out) "Side 2 digital output.", 15 GND2 (power) "Side 2 ground.", 16 VDD2 (power) "Side 2 power supply."

## Si8442BB-C-IS1
designator U?
Low-Power Quad-Channel Digital Isolator, 150 Mbps, 2.5 kVRMS Isolation Rating, -40 to 125 degC, 16-pin SOIC; Manufacturer: Silicon Labs; PartNumber: Si8442BB-C-IS1; 10kV surge: FALSE; Channel Type: Unidirectional; Enable Control: TRUE; Isolation Rating (kV): 2.5; Maximum Data Rate (Mbps): 150; Maximum Propagation Delay (ns): 9.5; Sub-Family: Isolators; DatasheetVersion: Rev. 1.5; PackageReference: SOIC-16-NB; PackageDescription: 16-Pin Small-Outline Integrated Circuit, Body 9.9 x 3.9 mm, Pitch 1.27 mm; Supplier 1: Digi-Key; Supplier Part Number 1: SI8442BB-C-IS1-ND; AEC-Q100: FALSE; Mounting Technology: Surface Mount; Code_JEDEC: MS-012; Code_IPC: J-STD-020; ComponentLink1Description: Manufacturer URL; ComponentLink1URL: http://www.silabs.com/; ComponentLink2Description: Datasheet; ComponentLink2URL: http://www.silabs.com/Support%20Documents/TechnicalDocs/Si844x.pdf; ComponentLink3Description: Package Specification; ComponentLink3URL: http://www.silabs.com/Support%20Documents/TechnicalDocs/si2401.pdf
footprint SLAB-SOIC-16-NB_N (SOIC, 16-Leads, Body 9.9x3.9mm, Pitch 1.27mm, IPC Medium Density)
footprint SLAB-SOIC-16-NB_L (SOIC, 16-Leads, Body 9.9x3.9mm, Pitch 1.27mm, IPC High Density)
footprint SLAB-SOIC-16-NB_M (SOIC, 16-Leads, Body 9.9x3.9mm, Pitch 1.27mm, IPC Low Density)
pins: 1 VDD1 (power) "Side 1 power supply.", 2 GND1 (power) "Side 1 ground.", 3 A1 (in) "Side 1 digital input.", 4 A2 (in) "Side 1 digital input.", 5 A3 (out) "Side 1 digital output.", 6 A4 (out) "Side 1 digital output.", 7 EN1 (in) "Side 1 active high enable", 8 GND1 (power) "Side 1 ground.", 9 GND2 (power) "Side 2 ground.", 10 EN2 (in) "Side 2 active high enable.", 11 B4 (in) "Side 2 digital input", 12 B3 (in) "Side 2 digital input", 13 B2 (out) "Side 2 digital output.", 14 B1 (out) "Side 2 digital output.", 15 GND2 (power) "Side 2 ground.", 16 VDD2 (power) "Side 2 power supply."

## Si8442BB-D-IS
designator U?
Low-Power Quad-Channel Digital Isolator, 150 Mbps, 2.5 kVRMS Isolation Rating, -40 to 125 degC, 16-pin SOIC; Manufacturer: Silicon Labs; PartNumber: Si8442BB-D-IS; 10kV surge: FALSE; Channel Type: Unidirectional; Enable Control: TRUE; Isolation Rating (kV): 2.5; Maximum Data Rate (Mbps): 150; Maximum Propagation Delay (ns): 9.5; Sub-Family: Isolators; DatasheetVersion: Rev. 1.5; PackageReference: SOIC-16-WB; PackageDescription: 16-Pin Wide Body Plastic Small Outline, Body 10.3 x 7.5 mm, Pitch 1.27 mm; Supplier 1: Digi-Key; Supplier Part Number 1: 336-1764-5-ND; Supplier 2: Mouser; Supplier Part Number 2: 634-SI8442BB-D-IS; AEC-Q100: FALSE; Mounting Technology: Surface Mount; Code_JEDEC: MS-013; ComponentLink1Description: Manufacturer URL; ComponentLink1URL: http://www.silabs.com/; ComponentLink2Description: Datasheet; ComponentLink2URL: http://www.silabs.com/Support%20Documents/TechnicalDocs/Si844x.pdf; ComponentLink3Description: Package Specification; ComponentLink3URL: https://www.silabs.com/Support%20Documents/TechnicalDocs/Si823x.pdf
footprint SLAB-SOIC-16-WB_N (SOIC, 16-Leads, Body 10.3x7.5mm, Pitch 1.27mm, IPC Medium Density)
footprint SLAB-SOIC-16-WB_L (SOIC, 16-Leads, Body 10.3x7.5mm, Pitch 1.27mm, IPC High Density)
footprint SLAB-SOIC-16-WB_M (SOIC, 16-Leads, Body 10.3x7.5mm, Pitch 1.27mm, IPC Low Density)
pins: 1 VDD1 (power) "Side 1 power supply.", 2 GND1 (power) "Side 1 ground.", 3 A1 (in) "Side 1 digital input.", 4 A2 (in) "Side 1 digital input.", 5 A3 (hiz) "Side 1 digital output.", 6 A4 (hiz) "Side 1 digital output.", 7 EN1 (in) "Side 1 active high enable.", 8 GND1 (power) "Side 1 ground.", 9 GND2 (power) "Side 2 ground.", 10 EN2 (in) "Side 2 active high enable.", 11 B4 (in) "Side 2 digital input.", 12 B3 (in) "Side 2 digital input.", 13 B2 (hiz) "Side 2 digital output.", 14 B1 (hiz) "Side 2 digital output.", 15 GND2 (power) "Side 2 ground.", 16 VDD2 (power) "Side 2 power supply."

## Si8442BB-D-IS1
designator U?
Low-Power Quad-Channel Digital Isolator, 150 Mbps, 2.5 kVRMS Isolation Rating, -40 to 125 degC, 16-pin SOIC; Manufacturer: Silicon Labs; PartNumber: Si8442BB-D-IS1; 10kV surge: FALSE; Channel Type: Unidirectional; Enable Control: TRUE; Isolation Rating (kV): 2.5; Maximum Data Rate (Mbps): 150; Maximum Propagation Delay (ns): 9.5; Sub-Family: Isolators; DatasheetVersion: Rev. 1.5; PackageReference: SOIC-16-NB; PackageDescription: 16-Pin Small-Outline Integrated Circuit, Body 9.9 x 3.9 mm, Pitch 1.27 mm; Supplier 1: Digi-Key; Supplier Part Number 1: SI8442BB-D-IS1-ND; Supplier 2: Mouser; Supplier Part Number 2: 634-SI8442BB-D-IS1; AEC-Q100: FALSE; Mounting Technology: Surface Mount; Code_JEDEC: MS-012; Code_IPC: J-STD-020; ComponentLink1Description: Manufacturer URL; ComponentLink1URL: http://www.silabs.com/; ComponentLink2Description: Datasheet; ComponentLink2URL: http://www.silabs.com/Support%20Documents/TechnicalDocs/Si844x.pdf; ComponentLink3Description: Package Specification; ComponentLink3URL: http://www.silabs.com/Support%20Documents/TechnicalDocs/si2401.pdf
footprint SLAB-SOIC-16-NB_N (SOIC, 16-Leads, Body 9.9x3.9mm, Pitch 1.27mm, IPC Medium Density)
footprint SLAB-SOIC-16-NB_L (SOIC, 16-Leads, Body 9.9x3.9mm, Pitch 1.27mm, IPC High Density)
footprint SLAB-SOIC-16-NB_M (SOIC, 16-Leads, Body 9.9x3.9mm, Pitch 1.27mm, IPC Low Density)
pins: 1 VDD1 (power) "Side 1 power supply.", 2 GND1 (power) "Side 1 ground.", 3 A1 (in) "Side 1 digital input.", 4 A2 (in) "Side 1 digital input.", 5 A3 (hiz) "Side 1 digital output.", 6 A4 (hiz) "Side 1 digital output.", 7 EN1 (in) "Side 1 active high enable.", 8 GND1 (power) "Side 1 ground.", 9 GND2 (power) "Side 2 ground.", 10 EN2 (in) "Side 2 active high enable.", 11 B4 (in) "Side 2 digital input.", 12 B3 (in) "Side 2 digital input.", 13 B2 (hiz) "Side 2 digital output.", 14 B1 (hiz) "Side 2 digital output.", 15 GND2 (power) "Side 2 ground.", 16 VDD2 (power) "Side 2 power supply."

## Si8445BA-C-IS1
designator U?
Low-Power Quad-Channel Digital Isolator, 150 Mbps, 1 kVRMS Isolation Rating, -40 to 125 degC, 16-pin SOIC; Manufacturer: Silicon Labs; PartNumber: Si8445BA-C-IS1; 10kV surge: FALSE; AEC-Q100: TRUE; Channel Type: Unidirectional; Isolation Rating (kV): 1; Maximum Data Rate (Mbps): 150; Maximum Propagation Delay (ns): 9.5; Sub-Family: Isolators; DatasheetVersion: Rev. 1.5; PackageReference: SOIC-16-NB; PackageDescription: 16-Pin Small-Outline Integrated Circuit, Body 9.9 x 3.9 mm, Pitch 1.27 mm; Supplier 1: Digi-Key; Supplier Part Number 1: SI8445BA-C-IS1-ND; Enable Control: FALSE; Mounting Technology: Surface Mount; Code_JEDEC: MS-012; Code_IPC: J-STD-020; ComponentLink1Description: Manufacturer URL; ComponentLink1URL: http://www.silabs.com/; ComponentLink2Description: Datasheet; ComponentLink2URL: http://www.silabs.com/Support%20Documents/TechnicalDocs/Si844x.pdf; ComponentLink3Description: Package Specification; ComponentLink3URL: http://www.silabs.com/Support%20Documents/TechnicalDocs/si2401.pdf
footprint SLAB-SOIC-16-NB_N (SOIC, 16-Leads, Body 9.9x3.9mm, Pitch 1.27mm, IPC Medium Density)
footprint SLAB-SOIC-16-NB_L (SOIC, 16-Leads, Body 9.9x3.9mm, Pitch 1.27mm, IPC High Density)
footprint SLAB-SOIC-16-NB_M (SOIC, 16-Leads, Body 9.9x3.9mm, Pitch 1.27mm, IPC Low Density)
pins: 1 VDD1 (power) "Side 1 power supply.", 2 GND1 (power) "Side 1 ground.", 3 A1 (in) "Side 1 digital input.", 4 A2 (in) "Side 1 digital input.", 5 A3 (in) "Side 1 digital input.", 6 A4 (in) "Side 1 digital input.", 7 NC "No Connect", 8 GND1 (power) "Side 1 ground.", 9 GND2 (power) "Side 2 ground.", 10 NC "No Connect", 11 B4 (out) "Side 2 digital output.", 12 B3 (out) "Side 2 digital output.", 13 B2 (out) "Side 2 digital output.", 14 B1 (out) "Side 2 digital output.", 15 GND2 (power) "Side 2 ground.", 16 VDD2 (power) "Side 2 power supply."

## Si8445BA-D-IS1
designator U?
Low-Power Quad-Channel Digital Isolator, 150 Mbps, 1 kVRMS Isolation Rating, -40 to 125 degC, 16-pin SOIC; Manufacturer: Silicon Labs; PartNumber: Si8445BA-D-IS1; 10kV surge: FALSE; AEC-Q100: TRUE; Channel Type: Unidirectional; Isolation Rating (kV): 1; Maximum Data Rate (Mbps): 150; Maximum Propagation Delay (ns): 9.5; Sub-Family: Isolators; DatasheetVersion: Rev. 1.5; PackageReference: SOIC-16-NB; PackageDescription: 16-Pin Small-Outline Integrated Circuit, Body 9.9 x 3.9 mm, Pitch 1.27 mm; Supplier 1: Digi-Key; Supplier Part Number 1: SI8445BA-D-IS1-ND; Supplier 2: Mouser; Supplier Part Number 2: 634-SI8445BA-D-IS1; Enable Control: FALSE; Mounting Technology: Surface Mount; Code_JEDEC: MS-012; Code_IPC: J-STD-020; ComponentLink1Description: Manufacturer URL; ComponentLink1URL: http://www.silabs.com/; ComponentLink2Description: Datasheet; ComponentLink2URL: http://www.silabs.com/Support%20Documents/TechnicalDocs/Si844x.pdf; ComponentLink3Description: Package Specification; ComponentLink3URL: http://www.silabs.com/Support%20Documents/TechnicalDocs/si2401.pdf
footprint SLAB-SOIC-16-NB_N (SOIC, 16-Leads, Body 9.9x3.9mm, Pitch 1.27mm, IPC Medium Density)
footprint SLAB-SOIC-16-NB_L (SOIC, 16-Leads, Body 9.9x3.9mm, Pitch 1.27mm, IPC High Density)
footprint SLAB-SOIC-16-NB_M (SOIC, 16-Leads, Body 9.9x3.9mm, Pitch 1.27mm, IPC Low Density)
pins: 1 VDD1 (power) "Side 1 power supply.", 2 GND1 (power) "Side 1 ground.", 3 A1 (in) "Side 1 digital input.", 4 A2 (in) "Side 1 digital input.", 5 A3 (in) "Side 1 digital input.", 6 A4 (in) "Side 1 digital input.", 7 NC "No Connect", 8 GND1 (power) "Side 1 ground.", 9 GND2 (power) "Side 2 ground.", 10 NC "No Connect", 11 B4 (out) "Side 2 digital output.", 12 B3 (out) "Side 2 digital output.", 13 B2 (out) "Side 2 digital output.", 14 B1 (out) "Side 2 digital output.", 15 GND2 (power) "Side 2 ground.", 16 VDD2 (power) "Side 2 power supply."

## Si8445BB-C-IS
designator U?
Low-Power Quad-Channel Digital Isolator, 150 Mbps, 2.5 kVRMS Isolation Rating, -40 to 125 degC, 16-pin SOIC; Manufacturer: Silicon Labs; PartNumber: Si8445BB-C-IS; 10kV surge: FALSE; AEC-Q100: TRUE; Channel Type: Unidirectional; Isolation Rating (kV): 2.5; Maximum Data Rate (Mbps): 150; Maximum Propagation Delay (ns): 9.5; Sub-Family: Isolators; DatasheetVersion: Rev. 1.5; PackageReference: SOIC-16-WB; PackageDescription: 16-Pin Wide Body Plastic Small Outline, Body 10.3 x 7.5 mm, Pitch 1.27 mm; Supplier 1: Mouser; Supplier Part Number 1: 634-SI8445BB-C-IS; Enable Control: FALSE; Mounting Technology: Surface Mount; Code_JEDEC: MS-013; ComponentLink1Description: Manufacturer URL; ComponentLink1URL: http://www.silabs.com/; ComponentLink2Description: Datasheet; ComponentLink2URL: http://www.silabs.com/Support%20Documents/TechnicalDocs/Si844x.pdf; ComponentLink3Description: Package Specification; ComponentLink3URL: https://www.silabs.com/Support%20Documents/TechnicalDocs/Si823x.pdf
footprint SLAB-SOIC-16-WB_N (SOIC, 16-Leads, Body 10.3x7.5mm, Pitch 1.27mm, IPC Medium Density)
footprint SLAB-SOIC-16-WB_L (SOIC, 16-Leads, Body 10.3x7.5mm, Pitch 1.27mm, IPC High Density)
footprint SLAB-SOIC-16-WB_M (SOIC, 16-Leads, Body 10.3x7.5mm, Pitch 1.27mm, IPC Low Density)
pins: 1 VDD1 (power) "Side 1 power supply.", 2 GND1 (power) "Side 1 ground.", 3 A1 (in) "Side 1 digital input.", 4 A2 (in) "Side 1 digital input.", 5 A3 (in) "Side 1 digital input.", 6 A4 (in) "Side 1 digital input.", 7 NC "No Connect", 8 GND1 (power) "Side 1 ground.", 9 GND2 (power) "Side 2 ground.", 10 NC "No Connect", 11 B4 (out) "Side 2 digital output.", 12 B3 (out) "Side 2 digital output.", 13 B2 (out) "Side 2 digital output.", 14 B1 (out) "Side 2 digital output.", 15 GND2 (power) "Side 2 ground.", 16 VDD2 (power) "Side 2 power supply."

## Si8445BB-C-IS1
designator U?
Low-Power Quad-Channel Digital Isolator, 150 Mbps, 2.5 kVRMS Isolation Rating, -40 to 125 degC, 16-pin SOIC; Manufacturer: Silicon Labs; PartNumber: Si8445BB-C-IS1; 10kV surge: FALSE; AEC-Q100: TRUE; Channel Type: Unidirectional; Isolation Rating (kV): 2.5; Maximum Data Rate (Mbps): 150; Maximum Propagation Delay (ns): 9.5; Sub-Family: Isolators; DatasheetVersion: Rev. 1.5; PackageReference: SOIC-16-NB; PackageDescription: 16-Pin Small-Outline Integrated Circuit, Body 9.9 x 3.9 mm, Pitch 1.27 mm; Supplier 1: Digi-Key; Supplier Part Number 1: SI8445BB-C-IS1-ND; Enable Control: FALSE; Mounting Technology: Surface Mount; Code_JEDEC: MS-012; Code_IPC: J-STD-020; ComponentLink1Description: Manufacturer URL; ComponentLink1URL: http://www.silabs.com/; ComponentLink2Description: Datasheet; ComponentLink2URL: http://www.silabs.com/Support%20Documents/TechnicalDocs/Si844x.pdf; ComponentLink3Description: Package Specification; ComponentLink3URL: http://www.silabs.com/Support%20Documents/TechnicalDocs/si2401.pdf
footprint SLAB-SOIC-16-NB_N (SOIC, 16-Leads, Body 9.9x3.9mm, Pitch 1.27mm, IPC Medium Density)
footprint SLAB-SOIC-16-NB_L (SOIC, 16-Leads, Body 9.9x3.9mm, Pitch 1.27mm, IPC High Density)
footprint SLAB-SOIC-16-NB_M (SOIC, 16-Leads, Body 9.9x3.9mm, Pitch 1.27mm, IPC Low Density)
pins: 1 VDD1 (power) "Side 1 power supply.", 2 GND1 (power) "Side 1 ground.", 3 A1 (in) "Side 1 digital input.", 4 A2 (in) "Side 1 digital input.", 5 A3 (in) "Side 1 digital input.", 6 A4 (in) "Side 1 digital input.", 7 NC "No Connect", 8 GND1 (power) "Side 1 ground.", 9 GND2 (power) "Side 2 ground.", 10 NC "No Connect", 11 B4 (out) "Side 2 digital output.", 12 B3 (out) "Side 2 digital output.", 13 B2 (out) "Side 2 digital output.", 14 B1 (out) "Side 2 digital output.", 15 GND2 (power) "Side 2 ground.", 16 VDD2 (power) "Side 2 power supply."

## Si8445BB-D-IS
designator U?
Low-Power Quad-Channel Digital Isolator, 150 Mbps, 2.5 kVRMS Isolation Rating, -40 to 125 degC, 16-pin SOIC; Manufacturer: Silicon Labs; PartNumber: Si8445BB-D-IS; 10kV surge: FALSE; AEC-Q100: TRUE; Channel Type: Unidirectional; Isolation Rating (kV): 2.5; Maximum Data Rate (Mbps): 150; Maximum Propagation Delay (ns): 9.5; Sub-Family: Isolators; DatasheetVersion: Rev. 1.5; PackageReference: SOIC-16-WB; PackageDescription: 16-Pin Wide Body Plastic Small Outline, Body 10.3 x 7.5 mm, Pitch 1.27 mm; Supplier 1: Digi-Key; Supplier Part Number 1: SI8445BB-D-IS-ND; Supplier 2: Mouser; Supplier Part Number 2: 634-SI8445BB-D-IS; Enable Control: FALSE; Mounting Technology: Surface Mount; Code_JEDEC: MS-013; ComponentLink1Description: Manufacturer URL; ComponentLink1URL: http://www.silabs.com/; ComponentLink2Description: Datasheet; ComponentLink2URL: http://www.silabs.com/Support%20Documents/TechnicalDocs/Si844x.pdf; ComponentLink3Description: Package Specification; ComponentLink3URL: https://www.silabs.com/Support%20Documents/TechnicalDocs/Si823x.pdf
footprint SLAB-SOIC-16-WB_N (SOIC, 16-Leads, Body 10.3x7.5mm, Pitch 1.27mm, IPC Medium Density)
footprint SLAB-SOIC-16-WB_L (SOIC, 16-Leads, Body 10.3x7.5mm, Pitch 1.27mm, IPC High Density)
footprint SLAB-SOIC-16-WB_M (SOIC, 16-Leads, Body 10.3x7.5mm, Pitch 1.27mm, IPC Low Density)
pins: 1 VDD1 (power) "Side 1 power supply.", 2 GND1 (power) "Side 1 ground.", 3 A1 (in) "Side 1 digital input.", 4 A2 (in) "Side 1 digital input.", 5 A3 (in) "Side 1 digital input.", 6 A4 (in) "Side 1 digital input.", 7 NC "No Connect", 8 GND1 (power) "Side 1 ground.", 9 GND2 (power) "Side 2 ground.", 10 NC "No Connect", 11 B4 (out) "Side 2 digital output.", 12 B3 (out) "Side 2 digital output.", 13 B2 (out) "Side 2 digital output.", 14 B1 (out) "Side 2 digital output.", 15 GND2 (power) "Side 2 ground.", 16 VDD2 (power) "Side 2 power supply."